# EAGLE library part 74HC4066_QUAD_BILATERAL_SWITCH (library 74HC4066)
Nexperia Quad Bilateral Switch The 74HC4066 is a quad single pole, single throw analog switch. Each switch features two input/output terminals (nY and nZ) and an active HIGH enable input (nE). When nE is LOW, the analog switch is turned off. Inputs include clamp diodes. This enables the use of current limiting resistors to interface inputs to voltages in excess of VCC. Datasheet <https://assets.nexperia.com/documents/data-sheet/74HC_HCT4066.pdf>
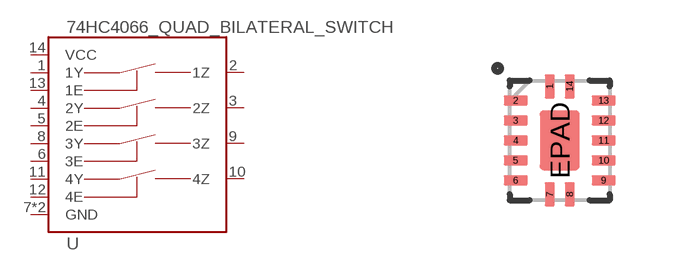
[diagram p0: symbol with the pads of 14-QFN; footprint 14-QFN]

Designator prefix -

## 74HC4066_QUAD_BILATERAL_SWITCH_QFN  [14-QFN]
1  1Y
2  1Z
3  2Z
4  2Y
5  2E
6  3E
7  GND
8  3Y
9  3Z
10  4Z
11  4Y
12  4E
13  1E
14  VCC
EPAD  GND

## Footprint 14-QFN (pad centres in mm)
36-QFN
smd 0.25 x 0.6: 1 -0.25,1.35; 7 -0.25,-1.35; 8 0.25,-1.35; 14 0.25,1.35
smd 0.6 x 0.25: 2 -1.1,1; 3 -1.1,0.5; 4 -1.1,0; 5 -1.1,-0.5; 6 -1.1,-1; 9 1.1,-1; 10 1.1,-0.5; 11 1.1,0; 12 1.1,0.5; 13 1.1,1
smd 1 x 1.5: EPAD 0,0